# Altium footprint library Projet_Lampe_V1.PcbLib: 1 footprints
Each footprint in its own frame and in the unit in brackets; x right, y up, seen from the top. Pads: shape width x height; smd on the part's side, far side on the other; paste and mask are expansions set on the pad; w line width, h text height; cw(c..) or ccw(c..) is an arc to the next point about the centre after c.
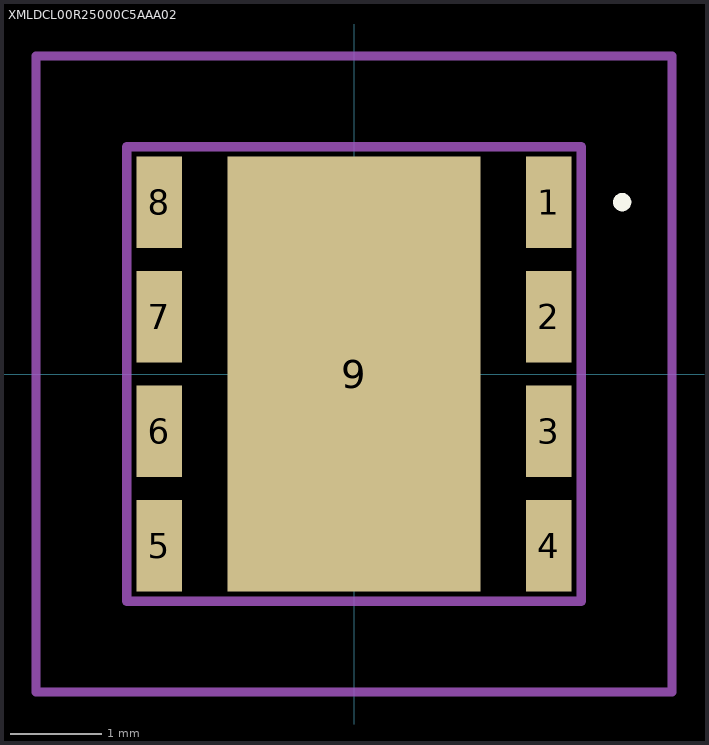
[diagram p0: the footprint, top view; thin cyan lines are the x and y axes]

## XMLDCL00R25000C5AAA02 [mm]
pads (9):
  rect 0.5x1.01 smd: 1(2.14,1.89) 2(2.14,0.63) 3(2.14,-0.63) 4(2.14,-1.89) 5(-2.14,-1.89) 6(-2.14,-0.63) 7(-2.14,0.63) 8(-2.14,1.89)
  rect 2.78x4.78 smd: 9(0,0)
Top Overlay:
  lines w0.1: 2.9,1.89 cw(c2.95,1.89) 3,1.89 cw(c2.95,1.89) 2.9,1.89
Mechanical 15:
  lines w0.1: -2.5,-2.5 -2.5,2.5 2.5,2.5 2.5,-2.5 -2.5,-2.5
Mechanical 20:
  lines w0.1: -3.5,-3.5 -3.5,3.5 3.5,3.5 3.5,-3.5 -3.5,-3.5
3D body "XMLDCL-00-R250-00C5AAA02.stp": height 3.25, standoff 0, extent -2.5,-2.5 2.5,2.5